# EAGLE library part TPS62130AQRGTRQ1 (library custom)
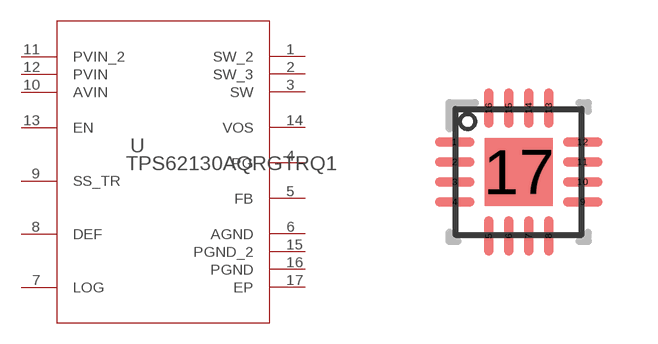
[diagram p9: symbol with the pads of RGT0016C; footprint RGT0016C]

Designator prefix U

## TPS62130AQRGTRQ1 (COMPTYPE: IC; MANUFACTURER: Texas Instruments; MOUNTTYPE: SMT; PACKAGEREFERENCE: RGT0016C; PARTNUMBER: TPS62130AQRGTRQ1; PIN_COUNT: 17; REFDES: RefDes; ROHS: Y; TYPE: TYPE; VALUE: Value)  [RGT0016C]
1  SW_2  pwr
2  SW_3  pwr
3  SW  pwr
4  PG  oc
5  FB  in
6  AGND  pwr
7  LOG  pas
8  DEF  in
9  SS_TR  in
10  AVIN  pwr
11  PVIN_2  pwr
12  PVIN  pwr
13  EN  in
14  VOS  in
15  PGND_2  pwr
16  PGND  pwr
17  EP  pwr

## Footprint RGT0016C (pad centres in mm)
smd 1 x 0.24: 1 -1.6,0.75; 2 -1.6,0.25; 3 -1.6,-0.25; 4 -1.6,-0.75; 9 1.6,-0.75; 10 1.6,-0.25; 11 1.6,0.25; 12 1.6,0.75
smd 0.24 x 1: 5 -0.75,-1.6; 6 -0.25,-1.6; 7 0.25,-1.6; 8 0.75,-1.6; 13 0.75,1.6; 14 0.25,1.6; 15 -0.25,1.6; 16 -0.75,1.6
smd 1.7 x 1.7: 17 0,0